# Altium footprint library capacitors.PcbLib: 15 footprints
Each footprint in its own frame and in the unit in brackets; x right, y up, seen from the top. Pads: shape width x height; smd on the part's side, far side on the other; paste and mask are expansions set on the pad; w line width, h text height; cw(c..) or ccw(c..) is an arc to the next point about the centre after c.
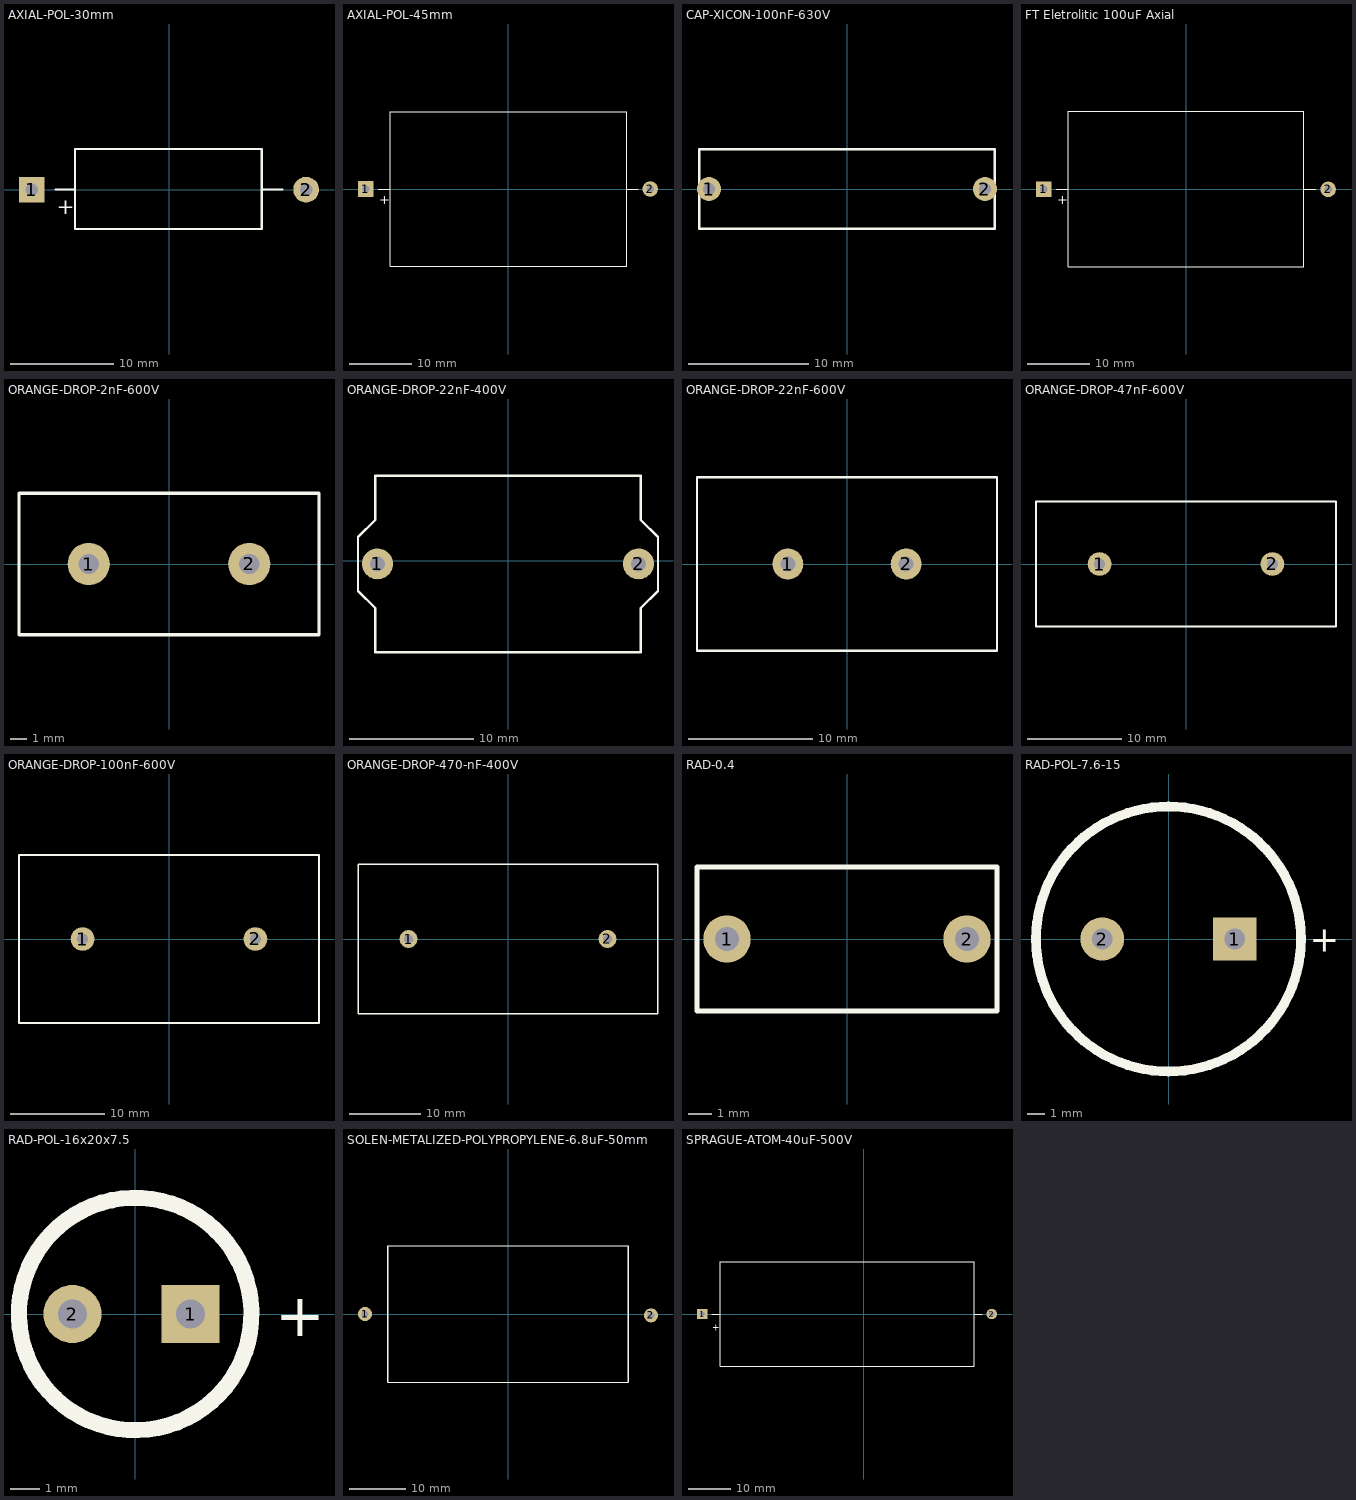
[diagram p0: the footprints below, top view; thin cyan lines are the x and y axes]

## AXIAL-POL-30mm [mm] "Axial Eletrolitic Capacitor Thru-Hole; 2 Leads; 30.0mm Pin Spacing"
height 29
pads (2):
  rect 2.5x2.5 hole 1.2: 1(-13.335,0)
  round 2.5 hole 1.2: 2(13.335,0)
Top Overlay:
  lines w0.2: -11.049,0 -9.144,0 ; 9.144,0 11.049,0 ; -9.144,-3.81 -9.144,3.937 9.017,3.937 9.017,-3.81 -9.144,-3.81
  text "+" at -10.922,-2.413 h1.52
3D body: height 9, standoff -2, extent -13.9,-4 13.9,4

## AXIAL-POL-45mm [mm] "Axial Eletrolitic Capacitor Thru-Hole; 2 Leads; 30.0mm Pin Spacing"
height 29
pads (2):
  rect 2.5x2.5 hole 1.2: 1(-22.86,0)
  round 2.5 hole 1.2: 2(22.86,0)
Top Overlay:
  lines w0.2: -20.828,0 -18.923,0 ; 19.05,0 20.955,0 ; -18.923,-12.446 19.05,-12.446 19.05,12.446 -18.923,12.446 -18.923,-12.446
  text "+" at -20.701,-2.413 h1.52
3D body: height 27.1, standoff -1.34, extent -23.035,-12.446 23.241,12.554

## CAP-XICON-100nF-630V [mm] "Radial Cap, Thru-Hole; 2 Leads; 0.4 in Pin Spacing"
pads (2):
  round 2 hole 1: 1(-11.5,0) 2(11.5,0)
Top Overlay:
  lines w0.2: -12.3,-3.302 -12.3,3.302 ; -12.3,-3.3 12.3,-3.3 ; -12.3,3.3 12.3,3.3 ; 12.3,-3.302 12.3,3.302
3D body: height 10.92, standoff -3, extent -12.002,-2.921 11.748,2.83

## FT Eletrolitic 100uF Axial [mm] "FT Axial Eletrolitic Capacitor Thru-Hole; 2 Leads; 45.0mm Pin Spacing"
height 29
pads (2):
  rect 2.5x2.5 hole 1.2: 1(-22.987,0)
  round 2.5 hole 1.2: 2(22.86,0)
Top Overlay:
  lines w0.2: -20.955,0 -19.05,0 ; 18.923,0 20.828,0 ; -19.05,-12.446 18.923,-12.446 18.923,12.573 -19.05,12.573 -19.05,-12.446
  text "+" at -20.828,-2.413 h1.52
3D body: height 27.6, standoff -0.84, extent -23.138,-12.5 23.138,12.5

## ORANGE-DROP-2nF-600V [mm] "Orange Drop Capacitor 2nF WxLxH=17.8x8.4.20x9.4mm - Lead 9.5mm"
height 25
pads (2):
  round 2.5 hole 1.2: 1(-4.76,0) 2(4.76,0)
Top Overlay:
  lines w0.2: -8.89,-4.191 -8.89,4.191 8.89,4.191 8.89,-4.191 -8.89,-4.191
3D body: height 10.2, standoff -4.4, extent -8.9,-4.2 8.9,4.2

## ORANGE-DROP-22nF-400V [mm] "Orange Drop Capacitor 22nF WxLxH=43.2x21.6x25 mm"
height 25
pads (2):
  round 2.5 hole 1.2: 1(-10.505,-0.239) 2(10.505,-0.239)
Top Overlay:
  lines w0.2: -12.065,-2.413 -10.668,-3.81 -10.668,-7.366 10.668,-7.366 10.668,-3.81 12.065,-2.413 12.065,1.905 10.668,3.302 10.668,6.858 -10.668,6.858 -10.668,3.302 -12.065,1.905 -12.065,-2.413
3D body: height 18, standoff -6, extent -10.505,-7.239 10.505,6.761

## ORANGE-DROP-22nF-600V [mm] "Orange Drop Capacitor 22nF WxLxH=31.0x11.20x12.7mm - Lead 18.30mm"
height 25
pads (2):
  round 2.5 hole 1.2: 1(-4.76,0) 2(4.76,0)
Top Overlay:
  lines w0.2: -12.065,-6.985 12.065,-6.985 12.065,6.985 -12.065,6.985 -12.065,-6.985
3D body: height 15.98, standoff -7.99, extent -12.065,-6.985 12.065,6.985

## ORANGE-DROP-47nF-600V [mm] "Orange Drop Capacitor 47nF WxLxH=31.8x13.20x14.2mm - Lead 18.30mm"
height 14.2
pads (2):
  round 2.5 hole 1.2: 1(-9.15,0) 2(9.15,0)
Top Overlay:
  lines w0.2: -15.875,-6.604 15.875,-6.604 15.875,6.604 -15.875,6.604 -15.875,-6.604
3D body: height 15.6, standoff -1.4, extent -15.875,-6.6 15.925,6.6

## ORANGE-DROP-100nF-600V [mm] "Orange Drop Capacitor 47nF WxLxH=31.8x18x19.2mm - Lead 18.30mm"
height 19.2
pads (2):
  round 2.5 hole 1.2: 1(-9.15,0) 2(9.15,0)
Top Overlay:
  lines w0.2: -15.875,-8.89 15.875,-8.89 15.875,8.89 -15.875,8.89 -15.875,-8.89
3D body: height 22, standoff -2.9, extent -15.875,-9 15.925,9

## ORANGE-DROP-470-nF-400V [mm] "Orange Drop Capacitor 470nF WxLxH=41.9x20.8x122.4mm - Lead 18.30mm"
height 25
pads (2):
  round 2.5 hole 1.2: 1(-13.9,0) 2(13.9,0)
Top Overlay:
  lines w0.2: -20.955,-10.414 20.955,-10.414 20.955,10.414 -20.955,10.414 -20.955,-10.414
3D body: height 25.4, standoff -5.4, extent -20.955,-10.4 20.945,10.4

## RAD-0.4 [mm] "Radial Cap, Thru-Hole; 2 Leads; 0.4 in Pin Spacing"
pads (2):
  round 2 hole 1: 1(-5.08,0) 2(5.08,0)
Top Overlay:
  lines w0.2: -6.35,-3.048 6.35,-3.048 6.35,3.048 -6.35,3.048 -6.35,-3.048

## RAD-POL-7.6-15 [mm] "Polarized Capacitor (Radial); 2 Leads"
pads (2):
  rect 2.5x2.5 hole 1.2: 1(3.81,0)
  round 2.5 hole 1.2: 2(-3.81,0)
Top Overlay:
  circle w0.554: c0,0 r7.62
  text "+" at 8.132,-0.737 h1.5
3D body: height 27, standoff -3, extent -8.179,-8.224 8.25,8.225

## RAD-POL-16x20x7.5 [mm] "Vishay 22uF 100V Polarized Capacitor (Radial); 2 Leads"
height 28
pads (2):
  rect 2x2 hole 1: 1(1.905,0)
  round 2 hole 1: 2(-2.159,0)
Top Overlay:
  lines w0.554: 3.997,0.145 ccw(c0,0) 3.999,0.08
  text "+" at 4.826,-0.762 h1.5
3D body: height 13, standoff -9, extent -4,-3.994 4,3.995

## SOLEN-METALIZED-POLYPROPYLENE-6.8uF-50mm [mm] "Metalized Polypropylene, 630V, Solen \"Fast\" - Length 42mm Diameter: 24.6mm"
height 20
pads (2):
  round 2.5 hole 1.2: 1(-25.527,0) 2(25.527,-0.239)
Top Overlay:
  lines w0.2: -21.463,-12.192 21.463,-12.192 ; -21.463,12.192 21.463,12.192
  lines w0.254: -21.463,-12.192 -21.463,12.192 ; 21.463,-12.192 21.463,12.192
3D body: height 27.32, standoff -6, extent -25.963,-12.446 25.963,12.192

## SPRAGUE-ATOM-40uF-500V [mm] "Pending Description"
height 29
pads (2):
  rect 2.5x2.5 hole 1.2: 1(-38.5,0)
  round 2.5 hole 1.2: 2(30.5,0)
Top Overlay:
  lines w0.2: -36.195,0 -34.29,0 ; 26.289,0 28.194,0 ; -34.163,-12.446 -34.163,12.446 26.289,12.446 26.289,-12.446 -34.163,-12.446
  text "+" at -36.068,-3.937 h1.52
3D body: height 27.63, standoff -0.81, extent -38.779,-12.546 30.746,12.454